# EAGLE library part STM32F030X-LQFP32 (library dooba)
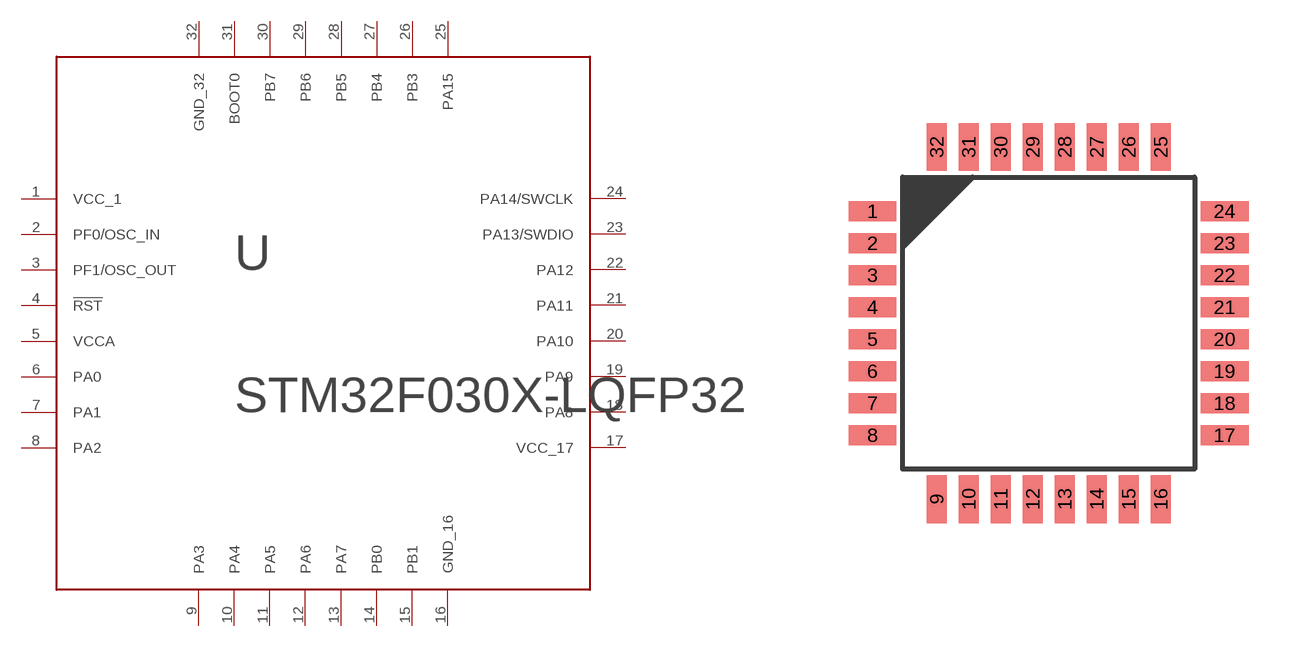
[diagram p1: symbol with the pads of QFP32; footprint QFP32]

Designator prefix U

## STM32F030X-LQFP32LQFP32  [QFP32]
1  VCC_1
2  PF0/OSC_IN
3  PF1/OSC_OUT
4  !RST
5  VCCA
6  PA0
7  PA1
8  PA2
9  PA3
10  PA4
11  PA5
12  PA6
13  PA7
14  PB0
15  PB1
16  GND_16
17  VCC_17
18  PA8
19  PA9
20  PA10
21  PA11
22  PA12
23  PA13/SWDIO
24  PA14/SWCLK
25  PA15
26  PB3
27  PB4
28  PB5
29  PB6
30  PB7
31  BOOT0
32  GND_32

## Footprint QFP32 (pad centres in mm)
smd 1.2 x 0.5: 1 -4.4,2.8; 2 -4.4,2; 3 -4.4,1.2; 4 -4.4,0.4; 5 -4.4,-0.4; 6 -4.4,-1.2; 7 -4.4,-2; 8 -4.4,-2.8; 17 4.4,-2.8; 18 4.4,-2; 19 4.4,-1.2; 20 4.4,-0.4; 21 4.4,0.4; 22 4.4,1.2; 23 4.4,2; 24 4.4,2.8
smd 0.5 x 1.2: 9 -2.8,-4.4; 10 -2,-4.4; 11 -1.2,-4.4; 12 -0.4,-4.4; 13 0.4,-4.4; 14 1.2,-4.4; 15 2,-4.4; 16 2.8,-4.4; 25 2.8,4.4; 26 2,4.4; 27 1.2,4.4; 28 0.4,4.4; 29 -0.4,4.4; 30 -1.2,4.4; 31 -2,4.4; 32 -2.8,4.4